# EAGLE library part PAD20 (library T1200)
20-pin connector pad array. Pad size: 0.508 x 7.5 mm.
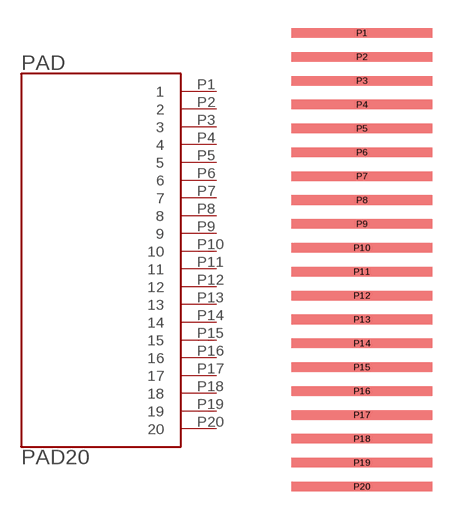
[diagram p0: symbol with the pads of PAD20; footprint PAD20]

Designator prefix PAD

## PAD20 (INFO: 20-pin connector)  [PAD20]
P1  1
P2  2
P3  3
P4  4
P5  5
P6  6
P7  7
P8  8
P9  9
P10  10
P11  11
P12  12
P13  13
P14  14
P15  15
P16  16
P17  17
P18  18
P19  19
P20  20

## Footprint PAD20 (pad centres in mm)
smd 7.5 x 0.508: P1 0,12.065; P2 0,10.795; P3 0,9.525; P4 0,8.255; P5 0,6.985; P6 0,5.715; P7 0,4.445; P8 0,3.175; P9 0,1.905; P10 0,0.635; P11 0,-0.635; P12 0,-1.905; P13 0,-3.175; P14 0,-4.445; P15 0,-5.715; P16 0,-6.985; P17 0,-8.255; P18 0,-9.525; P19 0,-10.795; P20 0,-12.065